# Altium footprint library IC-SMD.PCBLIB: 298 footprints (part 4 of 19)
Each footprint in its own frame and in the unit in brackets; x right, y up, seen from the top. Pads: shape width x height; smd on the part's side, far side on the other; paste and mask are expansions set on the pad; w line width, h text height; cw(c..) or ccw(c..) is an arc to the next point about the centre after c.
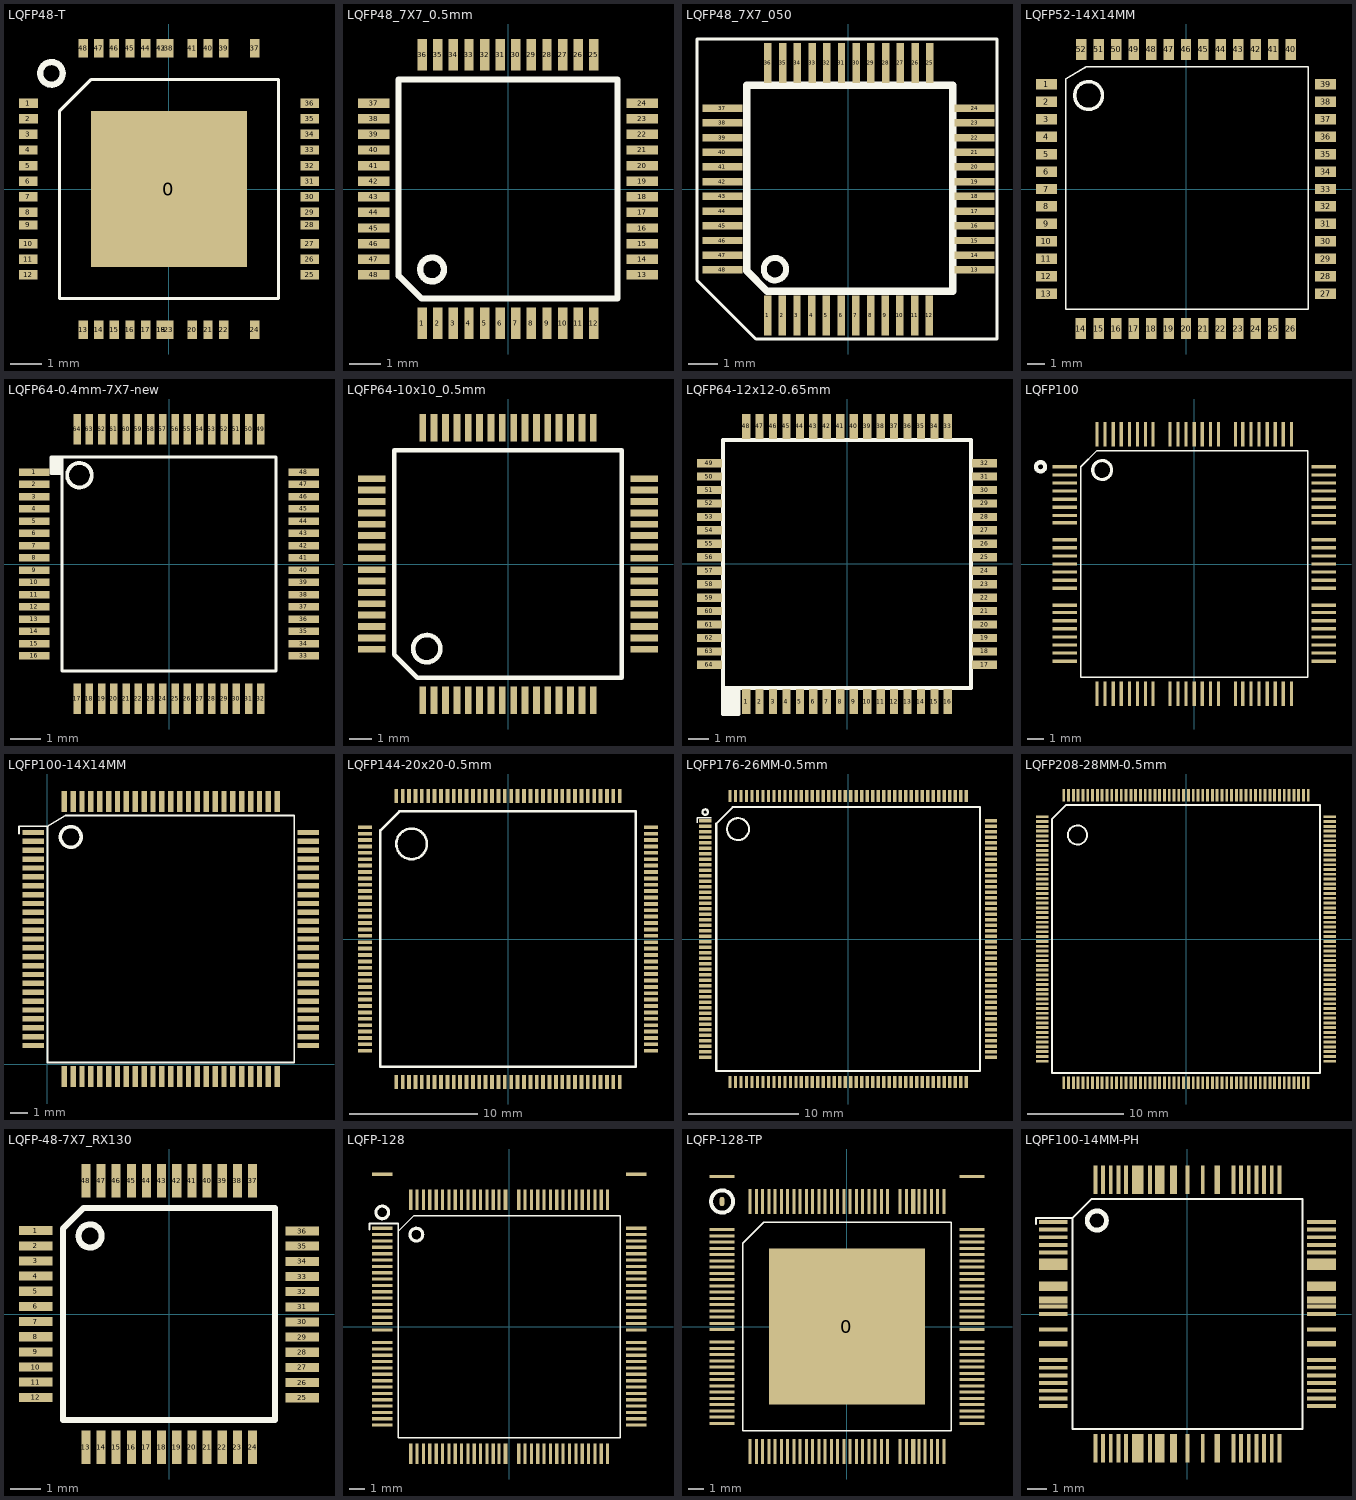
[diagram p3: the footprints below, top view; thin cyan lines are the x and y axes]

## LQFP48-T [mm]
pads (49):
  rect 5x5 smd: 0(0,0)
  rect 0.6x0.3 smd: 1(-4.5,2.75) 2(-4.5,2.25) 3(-4.5,1.75) 4(-4.5,1.25) 5(-4.5,0.75) 6(-4.5,0.25) 7(-4.5,-0.25) 8(-4.5,-0.75) 9(-4.5,-1.15) 10(-4.5,-1.75) 11(-4.5,-2.25) 12(-4.5,-2.75) 25(4.5,-2.75) 26(4.5,-2.25) 27(4.5,-1.75) 28(4.5,-1.15) 29(4.5,-0.75) 30(4.5,-0.25) 31(4.5,0.25) 32(4.5,0.75) 33(4.5,1.25) 34(4.5,1.75) 35(4.5,2.25) 36(4.5,2.75)
  rect 0.3x0.6 smd: 13(-2.75,-4.5) 14(-2.25,-4.5) 15(-1.75,-4.5) 16(-1.25,-4.5) 17(-0.75,-4.5) 18(-0.25,-4.5) 19(-0.25,-4.5) 20(0.75,-4.5) 21(1.25,-4.5) 22(1.75,-4.5) 23(0,-4.5) 24(2.75,-4.5) 37(2.75,4.5) 38(0,4.5) 39(1.75,4.5) 40(1.25,4.5) 41(0.75,4.5) 42(-0.25,4.5) 43(-0.25,4.5) 44(-0.75,4.5) 45(-1.25,4.5) 46(-1.75,4.5) 47(-2.25,4.5) 48(-2.75,4.5)
TopOverlay:
  circle w0.2: c-3.761,3.7 r0.361
  lines w0.1: -3.5,-3.5 -3.5,2.5 -2.5,3.5 3.5,3.5 3.5,-3.5 -3.5,-3.5

## LQFP48_7X7_0.5mm [mm] "LQFP48_7X7_0.5mm"
pads (48):
  rect 0.3x1 smd: 1(-2.75,-4.3) 2(-2.25,-4.3) 3(-1.75,-4.3) 4(-1.25,-4.3) 5(-0.75,-4.3) 6(-0.25,-4.3) 7(0.25,-4.3) 8(0.75,-4.3) 9(1.25,-4.3) 10(1.75,-4.3) 11(2.25,-4.3) 12(2.75,-4.3) 25(2.75,4.3) 26(2.25,4.3) 27(1.75,4.3) 28(1.25,4.3) 29(0.75,4.3) 30(0.25,4.3) 31(-0.25,4.3) 32(-0.75,4.3) 33(-1.25,4.3) 34(-1.75,4.3) 35(-2.25,4.3) 36(-2.75,4.3)
  rect 1x0.3 smd: 13(4.3,-2.75) 14(4.3,-2.25) 15(4.3,-1.75) 16(4.3,-1.25) 17(4.3,-0.75) 18(4.3,-0.25) 19(4.3,0.25) 20(4.3,0.75) 21(4.3,1.25) 22(4.3,1.75) 23(4.3,2.25) 24(4.3,2.75) 37(-4.3,2.75) 38(-4.3,2.25) 39(-4.3,1.75) 40(-4.3,1.25) 41(-4.3,0.75) 42(-4.3,0.25) 43(-4.3,-0.25) 44(-4.3,-0.75) 45(-4.3,-1.25) 46(-4.3,-1.75) 47(-4.3,-2.25) 48(-4.3,-2.75)
TopOverlay:
  circle w0.203: c-2.431,-2.575 r0.381
  lines w0.2: -3.5,-2.777 -3.5,3.5 3.5,3.5 3.5,-3.5 -2.77,-3.5 -3.494,-2.777

## LQFP48_7X7_050 [mm]
pads (48):
  rect 0.254x1.35 smd: 1(-2.75,-4.292) 2(-2.25,-4.292) 3(-1.75,-4.292) 4(-1.25,-4.292) 5(-0.75,-4.292) 6(-0.25,-4.292) 7(0.25,-4.292) 8(0.75,-4.292) 9(1.25,-4.292) 10(1.75,-4.292) 11(2.25,-4.292) 12(2.75,-4.292) 25(2.763,4.292) 26(2.263,4.292) 27(1.763,4.292) 28(1.263,4.292) 29(0.763,4.292) 30(0.263,4.292) 31(-0.237,4.292) 32(-0.737,4.292) 33(-1.237,4.292) 34(-1.737,4.292) 35(-2.237,4.292) 36(-2.737,4.292)
  rect 1.35x0.254 smd: 13(4.286,-2.744) 14(4.286,-2.244) 15(4.286,-1.744) 16(4.286,-1.244) 17(4.286,-0.744) 18(4.286,-0.244) 19(4.286,0.256) 20(4.286,0.756) 21(4.286,1.256) 22(4.286,1.756) 23(4.286,2.256) 24(4.286,2.756) 37(-4.286,2.756) 38(-4.286,2.256) 39(-4.286,1.756) 40(-4.286,1.256) 41(-4.286,0.756) 42(-4.286,0.256) 43(-4.286,-0.244) 44(-4.286,-0.744) 45(-4.286,-1.244) 46(-4.286,-1.744) 47(-4.286,-2.244) 48(-4.286,-2.744)
TopOverlay:
  circle w0.203: c-2.499,-2.718 r0.381
  lines w0.1: -5.15,-3.092 -3.15,-5.092 5.05,-5.092 5.05,5.108 -5.15,5.108 -5.15,-3.092
  lines w0.254: -3.456,-2.777 -2.77,-3.462 3.544,-3.462 3.544,3.538 -3.456,3.538 -3.456,-2.777

## LQFP52-14X14MM [mm] "LQFP52-14X14MM"
pads (52):
  rect 1.2x0.6 smd: 1(-8,6) 2(-8,5) 3(-8,4) 4(-8,3) 5(-8,2) 6(-8,1) 7(-8,0) 8(-8,-1) 9(-8,-2) 10(-8,-3) 11(-8,-4) 12(-8,-5) 13(-8,-6) 27(8,-6) 28(8,-5) 29(8,-4) 30(8,-3) 31(8,-2) 32(8,-1) 33(8,0) 34(8,1) 35(8,2) 36(8,3) 37(8,4) 38(8,5) 39(8,6)
  rect 0.6x1.2 smd: 14(-6.025,-8) 15(-5,-8) 16(-4,-8) 17(-3,-8) 18(-2,-8) 19(-1,-8) 20(0,-8) 21(1,-8) 22(2,-8) 23(3,-8) 24(4,-8) 25(5,-8) 26(6,-8) 40(6,8) 41(5,8) 42(4,8) 43(3,8) 44(2,8) 45(1,8) 46(0,8) 47(-1,8) 48(-2,8) 49(-3,8) 50(-4,8) 51(-5,8) 52(-6,8)
TopOverlay:
  circle w0.2: c-5.588,5.362 r0.8
  lines w0.1: -6.888,-6.888 -6.888,6.312 -5.721,7.012 7.012,7.012 7.012,-6.888 -6.888,-6.888

## LQFP64-0.4mm-7X7-new [mm] "LQFP64-0.4mm-7X7-new"
pads (64):
  rect 1x0.25 smd: 1(-4.4,3) 2(-4.4,2.6) 3(-4.4,2.2) 4(-4.4,1.8) 5(-4.4,1.4) 6(-4.4,1) 7(-4.4,0.6) 8(-4.4,0.2) 9(-4.4,-0.2) 10(-4.4,-0.6) 11(-4.4,-1) 12(-4.4,-1.4) 13(-4.4,-1.8) 14(-4.4,-2.2) 15(-4.4,-2.6) 16(-4.4,-3) 33(4.4,-3) 34(4.4,-2.6) 35(4.4,-2.2) 36(4.4,-1.8) 37(4.4,-1.4) 38(4.4,-1) 39(4.4,-0.6) 40(4.4,-0.2) 41(4.4,0.2) 42(4.4,0.6) 43(4.4,1) 44(4.4,1.4) 45(4.4,1.8) 46(4.4,2.2) 47(4.4,2.6) 48(4.4,3)
  rect 0.25x1 smd: 17(-3,-4.4) 18(-2.6,-4.4) 19(-2.2,-4.4) 20(-1.8,-4.4) 21(-1.4,-4.4) 22(-1,-4.4) 23(-0.6,-4.4) 24(-0.2,-4.4) 25(0.2,-4.4) 26(0.6,-4.4) 27(1,-4.4) 28(1.4,-4.4) 29(1.8,-4.4) 30(2.2,-4.4) 31(2.6,-4.4) 32(3,-4.4) 49(3,4.4) 50(2.6,4.4) 51(2.2,4.4) 52(1.8,4.4) 53(1.4,4.4) 54(1,4.4) 55(0.6,4.4) 56(0.2,4.4) 57(-0.2,4.4) 58(-0.6,4.4) 59(-1,4.4) 60(-1.4,4.4) 61(-1.8,4.4) 62(-2.2,4.4) 63(-2.6,4.4) 64(-3,4.4)
TopOverlay:
  circle w0.127: c-2.925,2.9 r0.4
  rectangle: -3.9,2.95 -3.55,3.5
  lines w0.1: -3.85,2.95 -3.5,2.95 ; -3.85,3.5 -3.5,3.5 ; -3.5,3.5 -3.5,-3.5 3.5,-3.5 3.5,3.5 -3.5,3.5

## LQFP64-10x10_0.5mm [mm] "LQFP64-10x10_0.5mm"
pads (64):
  rect 0.3x1.2 smd: 1(-3.75,-6) 2(-3.25,-6) 3(-2.75,-6) 4(-2.25,-6) 5(-1.75,-6) 6(-1.25,-6) 7(-0.75,-6) 8(-0.25,-6) 9(0.25,-6) 10(0.75,-6) 11(1.25,-6) 12(1.75,-6) 13(2.25,-6) 14(2.75,-6) 15(3.25,-6) 16(3.75,-6) 33(3.75,6) 34(3.25,6) 35(2.75,6) 36(2.25,6) 37(1.75,6) 38(1.25,6) 39(0.75,6) 40(0.25,6) 41(-0.25,6) 42(-0.75,6) 43(-1.25,6) 44(-1.75,6) 45(-2.25,6) 46(-2.75,6) 47(-3.25,6) 48(-3.75,6)
  rect 1.2x0.3 smd: 17(6,-3.75) 18(6,-3.25) 19(6,-2.75) 20(6,-2.25) 21(6,-1.75) 22(6,-1.25) 23(6,-0.75) 24(6,-0.25) 25(6,0.25) 26(6,0.75) 27(6,1.25) 28(6,1.75) 29(6,2.25) 30(6,2.75) 31(6,3.25) 32(6,3.75) 49(-6,3.75) 50(-6,3.25) 51(-6,2.75) 52(-6,2.25) 53(-6,1.75) 54(-6,1.25) 55(-6,0.75) 56(-6,0.25) 57(-6,-0.25) 58(-6,-0.75) 59(-6,-1.25) 60(-6,-1.75) 61(-6,-2.25) 62(-6,-2.75) 63(-6,-3.25) 64(-6,-3.75)
TopOverlay:
  circle w0.203: c-3.575,-3.725 r0.6
  lines w0.2: -5,-4 -5,5 5,5 5,-5 -4,-5 -5,-4

## LQFP64-12x12-0.65mm [mm] "LQFP64-12x12-0.65mm"
pads (64):
  rect 0.4x1.2 smd: 1(-4.875,-6.65) 2(-4.225,-6.65) 3(-3.575,-6.65) 4(-2.925,-6.65) 5(-2.275,-6.65) 6(-1.625,-6.65) 7(-0.975,-6.65) 8(-0.325,-6.65) 9(0.325,-6.65) 10(0.975,-6.65) 11(1.625,-6.65) 12(2.275,-6.65) 13(2.925,-6.65) 14(3.575,-6.65) 15(4.225,-6.65) 16(4.875,-6.65) 33(4.875,6.65) 34(4.225,6.65) 35(3.575,6.65) 36(2.925,6.65) 37(2.275,6.65) 38(1.625,6.65) 39(0.975,6.65) 40(0.325,6.65) 41(-0.325,6.65) 42(-0.975,6.65) 43(-1.625,6.65) 44(-2.275,6.65) 45(-2.925,6.65) 46(-3.575,6.65) 47(-4.225,6.65) 48(-4.875,6.65)
  rect 1.2x0.4 smd: 17(6.65,-4.875) 18(6.65,-4.225) 19(6.65,-3.575) 20(6.65,-2.925) 21(6.65,-2.275) 22(6.65,-1.625) 23(6.65,-0.975) 24(6.65,-0.325) 25(6.65,0.325) 26(6.65,0.975) 27(6.65,1.625) 28(6.65,2.275) 29(6.65,2.925) 30(6.65,3.575) 31(6.65,4.225) 32(6.65,4.875) 49(-6.65,4.875) 50(-6.65,4.225) 51(-6.65,3.575) 52(-6.65,2.925) 53(-6.65,2.275) 54(-6.65,1.625) 55(-6.65,0.975) 56(-6.65,0.325) 57(-6.65,-0.325) 58(-6.65,-0.975) 59(-6.65,-1.625) 60(-6.65,-2.275) 61(-6.65,-2.925) 62(-6.65,-3.575) 63(-6.65,-4.225) 64(-6.65,-4.875)
TopOverlay:
  rectangle: -6,-7.25 -5.25,-6
  lines w0.2: -6,-5.95 -6,-7.25 -5.25,-7.25 -5.25,-6 ; -6,-6 -6,6 6,6 6,-6 -6,-6

## LQFP100 [mm]
pads (100):
  rect 1.5x0.2 smd: 1(-8,6) 2(-8,5.5) 3(-8,5) 4(-8,4.5) 5(-8,4) 6(-8,3.5) 7(-8,3) 8(-8,2.55) 9(-8,1.5) 10(-8,1.5) 11(-8,1) 12(-8,0.5) 13(-8,0) 14(-8,-0.5) 15(-8,-1) 16(-8,-1.5) 17(-8,-1.5) 18(-8,-2.55) 19(-8,-3) 20(-8,-3.5) 21(-8,-4) 22(-8,-4.5) 23(-8,-5) 24(-8,-5.5) 25(-8,-6) 51(8,-6) 52(8,-5.5) 53(8,-5) 54(8,-4.5) 55(8,-4) 56(8,-3.5) 57(8,-3) 58(8,-2.55) 59(8,-1.5) 60(8,-1.5) 61(8,-1) 62(8,-0.5) 63(8,0) 64(8,0.5) 65(8,1) 66(8,1.5) 67(8,1.5) 68(8,2.55) 69(8,3) 70(8,3.5) 71(8,4) 72(8,4.5) 73(8,5) 74(8,5.5) 75(8,6)
  rect 0.2x1.5 smd: 26(-6,-8) 27(-5.5,-8) 28(-5,-8) 29(-4.5,-8) 30(-4,-8) 31(-3.5,-8) 32(-3,-8) 33(-2.55,-8) 34(-1.5,-8) 35(-1.5,-8) 36(-1,-8) 37(-0.5,-8) 38(0,-8) 39(0.5,-8) 40(1,-8) 41(1.5,-8) 42(1.5,-8) 43(2.55,-8) 44(3,-8) 45(3.5,-8) 46(4,-8) 47(4.5,-8) 48(5,-8) 49(5.5,-8) 50(6,-8) 76(6,8) 77(5.5,8) 78(5,8) 79(4.5,8) 80(4,8) 81(3.5,8) 82(3,8) 83(2.55,8) 84(1.5,8) 85(1.5,8) 86(1,8) 87(0.5,8) 88(0,8) 89(-0.5,8) 90(-1,8) 91(-1.5,8) 92(-1.5,8) 93(-2.55,8) 94(-3,8) 95(-3.5,8) 96(-4,8) 97(-4.5,8) 98(-5,8) 99(-5.5,8) 100(-6,8)
TopOverlay:
  circle w0.254: c-9.483,6 r0.283
  circle w0.2: c-5.683,5.8 r0.583
  lines w0.1: -7,-7 -7,6 -6,7 7,7 7,-7 -7,-7

## LQFP100-14X14MM [mm] "LQFP100-14X14MM"
pads (100):
  rect 1.2x0.3 smd: 1(-0.8,13.05) 2(-0.8,12.55) 3(-0.8,12.05) 4(-0.8,11.55) 5(-0.8,11.05) 6(-0.8,10.55) 7(-0.8,10.05) 8(-0.8,9.55) 9(-0.8,9.05) 10(-0.8,8.55) 11(-0.8,8.05) 12(-0.8,7.55) 13(-0.8,7.05) 14(-0.8,6.55) 15(-0.8,6.05) 16(-0.8,5.55) 17(-0.8,5.05) 18(-0.8,4.55) 19(-0.8,4.05) 20(-0.8,3.55) 21(-0.8,3.05) 22(-0.8,2.55) 23(-0.8,2.05) 24(-0.8,1.55) 25(-0.8,1.05) 51(14.7,1.05) 52(14.7,1.55) 53(14.7,2.05) 54(14.7,2.55) 55(14.7,3.05) 56(14.7,3.55) 57(14.7,4.05) 58(14.7,4.55) 59(14.7,5.05) 60(14.7,5.55) 61(14.7,6.05) 62(14.7,6.55) 63(14.7,7.05) 64(14.7,7.55) 65(14.7,8.05) 66(14.7,8.55) 67(14.7,9.05) 68(14.7,9.55) 69(14.7,10.05) 70(14.7,10.55) 71(14.7,11.05) 72(14.7,11.55) 73(14.7,12.05) 74(14.7,12.55) 75(14.7,13.05)
  rect 0.3x1.2 smd: 26(0.95,-0.7) 27(1.45,-0.7) 28(1.95,-0.7) 29(2.45,-0.7) 30(2.95,-0.7) 31(3.45,-0.7) 32(3.95,-0.7) 33(4.45,-0.7) 34(4.95,-0.7) 35(5.45,-0.7) 36(5.95,-0.7) 37(6.45,-0.7) 38(6.95,-0.7) 39(7.45,-0.7) 40(7.95,-0.7) 41(8.45,-0.7) 42(8.95,-0.7) 43(9.45,-0.7) 44(9.95,-0.7) 45(10.45,-0.7) 46(10.95,-0.7) 47(11.45,-0.7) 48(11.95,-0.7) 49(12.45,-0.7) 50(12.95,-0.7) 76(12.95,14.8) 77(12.45,14.8) 78(11.95,14.8) 79(11.45,14.8) 80(10.95,14.8) 81(10.45,14.8) 82(9.95,14.8) 83(9.45,14.8) 84(8.95,14.8) 85(8.45,14.8) 86(7.95,14.8) 87(7.45,14.8) 88(6.95,14.8) 89(6.45,14.8) 90(5.95,14.8) 91(5.45,14.8) 92(4.95,14.8) 93(4.45,14.8) 94(3.95,14.8) 95(3.45,14.8) 96(2.95,14.8) 97(2.45,14.8) 98(1.95,14.8) 99(1.45,14.8) 100(0.95,14.8)
TopOverlay:
  circle w0.2: c1.317,12.8 r0.583
  lines w0.1: -1.6,13 -1.6,13.4 0,13.4 ; 0,13.4 1,14 13.9,14 13.9,0.1 0,0.1 0,13.4

## LQFP144-20x20-0.5mm [mm] "LQFP144-20x20-0.5mm"
pads (144):
  rect 1.1x0.3 smd: 1(-11.2,8.75) 2(-11.2,8.25) 3(-11.2,7.75) 4(-11.2,7.25) 5(-11.2,6.75) 6(-11.2,6.25) 7(-11.2,5.75) 8(-11.2,5.25) 9(-11.2,4.75) 10(-11.2,4.25) 11(-11.2,3.75) 12(-11.2,3.25) 13(-11.2,2.75) 14(-11.2,2.25) 15(-11.2,1.75) 16(-11.2,1.25) 17(-11.2,0.75) 18(-11.2,0.25) 19(-11.2,-0.25) 20(-11.2,-0.75) 21(-11.2,-1.25) 22(-11.2,-1.75) 23(-11.2,-2.25) 24(-11.2,-2.75) 25(-11.2,-3.25) 26(-11.2,-3.75) 27(-11.2,-4.25) 28(-11.2,-4.75) 29(-11.2,-5.25) 30(-11.2,-5.75) 31(-11.2,-6.25) 32(-11.2,-6.75) 33(-11.2,-7.25) 34(-11.2,-7.75) 35(-11.2,-8.25) 36(-11.2,-8.75) 73(11.2,-8.75) 74(11.2,-8.25) 75(11.2,-7.75) 76(11.2,-7.25) 77(11.2,-6.75) 78(11.2,-6.25) 79(11.2,-5.75) 80(11.2,-5.25) 81(11.2,-4.75) 82(11.2,-4.25) 83(11.2,-3.75) 84(11.2,-3.25) 85(11.2,-2.75) 86(11.2,-2.25) 87(11.2,-1.75) 88(11.2,-1.25) 89(11.2,-0.75) 90(11.2,-0.25) 91(11.2,0.25) 92(11.2,0.75) 93(11.2,1.25) 94(11.2,1.75) 95(11.2,2.25) 96(11.2,2.75) 97(11.2,3.25) 98(11.2,3.75) 99(11.2,4.25) 100(11.2,4.75) 101(11.2,5.25) 102(11.2,5.75) 103(11.2,6.25) 104(11.2,6.75) 105(11.2,7.25) 106(11.2,7.75) 107(11.2,8.25) 108(11.2,8.75)
  rect 0.3x1.1 smd: 37(-8.75,-11.2) 38(-8.25,-11.2) 39(-7.75,-11.2) 40(-7.25,-11.2) 41(-6.75,-11.2) 42(-6.25,-11.2) 43(-5.75,-11.2) 44(-5.25,-11.2) 45(-4.75,-11.2) 46(-4.25,-11.2) 47(-3.75,-11.2) 48(-3.25,-11.2) 49(-2.75,-11.2) 50(-2.25,-11.2) 51(-1.75,-11.2) 52(-1.25,-11.2) 53(-0.75,-11.2) 54(-0.25,-11.2) 55(0.25,-11.2) 56(0.75,-11.2) 57(1.25,-11.2) 58(1.75,-11.2) 59(2.25,-11.2) 60(2.75,-11.2) 61(3.25,-11.2) 62(3.75,-11.2) 63(4.25,-11.2) 64(4.75,-11.2) 65(5.25,-11.2) 66(5.75,-11.2) 67(6.25,-11.2) 68(6.75,-11.2) 69(7.25,-11.2) 70(7.75,-11.2) 71(8.25,-11.2) 72(8.75,-11.2) 109(8.75,11.2) 110(8.25,11.2) 111(7.75,11.2) 112(7.25,11.2) 113(6.75,11.2) 114(6.25,11.2) 115(5.75,11.2) 116(5.25,11.2) 117(4.75,11.2) 118(4.25,11.2) 119(3.75,11.2) 120(3.25,11.2) 121(2.75,11.2) 122(2.25,11.2) 123(1.75,11.2) 124(1.25,11.2) 125(0.75,11.2) 126(0.25,11.2) 127(-0.25,11.2) 128(-0.75,11.2) 129(-1.25,11.2) 130(-1.75,11.2) 131(-2.25,11.2) 132(-2.75,11.2) 133(-3.25,11.2) 134(-3.75,11.2) 135(-4.25,11.2) 136(-4.75,11.2) 137(-5.25,11.2) 138(-5.75,11.2) 139(-6.25,11.2) 140(-6.75,11.2) 141(-7.25,11.2) 142(-7.75,11.2) 143(-8.25,11.2) 144(-8.75,11.2)
TopOverlay:
  circle w0.2: c-7.55,7.45 r1.2
  lines w0.2: -10,-10 10,-10 10,10 -8.5,10 -10,8.5 -10,-10

## LQFP176-26MM-0.5mm [mm] "LQFP176-26MM-0.5mm"
pads (176):
  rect 1.1x0.3 smd: 1(-13,10.75) 2(-13,10.25) 3(-13,9.75) 4(-13,9.25) 5(-13,8.75) 6(-13,8.25) 7(-13,7.75) 8(-13,7.25) 9(-13,6.75) 10(-13,6.25) 11(-13,5.75) 12(-13,5.25) 13(-13,4.75) 14(-13,4.25) 15(-13,3.75) 16(-13,3.25) 17(-13,2.75) 18(-13,2.25) 19(-13,1.75) 20(-13,1.25) 21(-13,0.75) 22(-13,0.25) 23(-13,-0.25) 24(-13,-0.75) 25(-13,-1.25) 26(-13,-1.75) 27(-13,-2.25) 28(-13,-2.75) 29(-13,-3.25) 30(-13,-3.75) 31(-13,-4.25) 32(-13,-4.75) 33(-13,-5.25) 34(-13,-5.75) 35(-13,-6.25) 36(-13,-6.75) 37(-13,-7.25) 38(-13,-7.75) 39(-13,-8.25) 40(-13,-8.75) 41(-13,-9.25) 42(-13,-9.75) 43(-13,-10.25) 44(-13,-10.75) 89(13,-10.75) 90(13,-10.25) 91(13,-9.75) 92(13,-9.25) 93(13,-8.75) 94(13,-8.25) 95(13,-7.75) 96(13,-7.25) 97(13,-6.75) 98(13,-6.25) 99(13,-5.75) 100(13,-5.25) 101(13,-4.75) 102(13,-4.25) 103(13,-3.75) 104(13,-3.25) 105(13,-2.75) 106(13,-2.25) 107(13,-1.75) 108(13,-1.25) 109(13,-0.75) 110(13,-0.25) 111(13,0.25) 112(13,0.75) 113(13,1.25) 114(13,1.75) 115(13,2.25) 116(13,2.75) 117(13,3.25) 118(13,3.75) 119(13,4.25) 120(13,4.75) 121(13,5.25) 122(13,5.75) 123(13,6.25) 124(13,6.75) 125(13,7.25) 126(13,7.75) 127(13,8.25) 128(13,8.75) 129(13,9.25) 130(13,9.75) 131(13,10.25) 132(13,10.75)
  rect 0.3x1.1 smd: 45(-10.75,-13) 46(-10.25,-13) 47(-9.75,-13) 48(-9.25,-13) 49(-8.75,-13) 50(-8.25,-13) 51(-7.75,-13) 52(-7.25,-13) 53(-6.75,-13) 54(-6.25,-13) 55(-5.75,-13) 56(-5.25,-13) 57(-4.75,-13) 58(-4.25,-13) 59(-3.75,-13) 60(-3.25,-13) 61(-2.75,-13) 62(-2.25,-13) 63(-1.75,-13) 64(-1.25,-13) 65(-0.75,-13) 66(-0.25,-13) 67(0.25,-13) 68(0.75,-13) 69(1.25,-13) 70(1.75,-13) 71(2.25,-13) 72(2.75,-13) 73(3.25,-13) 74(3.75,-13) 75(4.25,-13) 76(4.75,-13) 77(5.25,-13) 78(5.75,-13) 79(6.25,-13) 80(6.75,-13) 81(7.25,-13) 82(7.75,-13) 83(8.25,-13) 84(8.75,-13) 85(9.25,-13) 86(9.75,-13) 87(10.25,-13) 88(10.75,-13) 133(10.75,13) 134(10.25,13) 135(9.75,13) 136(9.25,13) 137(8.75,13) 138(8.25,13) 139(7.75,13) 140(7.25,13) 141(6.75,13) 142(6.25,13) 143(5.75,13) 144(5.25,13) 145(4.75,13) 146(4.25,13) 147(3.75,13) 148(3.25,13) 149(2.75,13) 150(2.25,13) 151(1.75,13) 152(1.25,13) 153(0.75,13) 154(0.25,13) 155(-0.25,13) 156(-0.75,13) 157(-1.25,13) 158(-1.75,13) 159(-2.25,13) 160(-2.75,13) 161(-3.25,13) 162(-3.75,13) 163(-4.25,13) 164(-4.75,13) 165(-5.25,13) 166(-5.75,13) 167(-6.25,13) 168(-6.75,13) 169(-7.25,13) 170(-7.75,13) 171(-8.25,13) 172(-8.75,13) 173(-9.25,13) 174(-9.75,13) 175(-10.25,13) 176(-10.75,13)
TopOverlay:
  circle w0.2: c-13,11.55 r0.25
  circle w0.2: c-10.015,10 r1
  lines w0.127: -13.75,10.6 -13.75,11.05 -12.475,11.05
  lines w0.2: -12,-12 12,-12 12,12 -10.5,12 -12,10.5 -12,-12

## LQFP208-28MM-0.5mm [mm] "LQFP208-28MM-0.5mm"
pads (208):
  rect 1.3x0.3 smd: 1(-15,12.75) 2(-15,12.25) 3(-15,11.75) 4(-15,11.25) 5(-15,10.75) 6(-15,10.25) 7(-15,9.75) 8(-15,9.25) 9(-15,8.75) 10(-15,8.25) 11(-15,7.75) 12(-15,7.25) 13(-15,6.75) 14(-15,6.25) 15(-15,5.75) 16(-15,5.25) 17(-15,4.75) 18(-15,4.25) 19(-15,3.75) 20(-15,3.25) 21(-15,2.75) 22(-15,2.25) 23(-15,1.75) 24(-15,1.25) 25(-15,0.75) 26(-15,0.25) 27(-15,-0.25) 28(-15,-0.75) 29(-15,-1.25) 30(-15,-1.75) 31(-15,-2.25) 32(-15,-2.75) 33(-15,-3.25) 34(-15,-3.75) 35(-15,-4.25) 36(-15,-4.75) 37(-15,-5.25) 38(-15,-5.75) 39(-15,-6.25) 40(-15,-6.75) 41(-15,-7.25) 42(-15,-7.75) 43(-15,-8.25) 44(-15,-8.75) 45(-15,-9.25) 46(-15,-9.75) 47(-15,-10.25) 48(-15,-10.75) 49(-15,-11.25) 50(-15,-11.75) 51(-15,-12.25) 52(-15,-12.75) 105(15,-12.75) 106(15,-12.25) 107(15,-11.75) 108(15,-11.25) 109(15,-10.75) 110(15,-10.25) 111(15,-9.75) 112(15,-9.25) 113(15,-8.75) 114(15,-8.25) 115(15,-7.75) 116(15,-7.25) 117(15,-6.75) 118(15,-6.25) 119(15,-5.75) 120(15,-5.25) 121(15,-4.75) 122(15,-4.25) 123(15,-3.75) 124(15,-3.25) 125(15,-2.75) 126(15,-2.25) 127(15,-1.75) 128(15,-1.25) 129(15,-0.75) 130(15,-0.25) 131(15,0.25) 132(15,0.75) 133(15,1.25) 134(15,1.75) 135(15,2.25) 136(15,2.75) 137(15,3.25) 138(15,3.75) 139(15,4.25) 140(15,4.75) 141(15,5.25) 142(15,5.75) 143(15,6.25) 144(15,6.75) 145(15,7.25) 146(15,7.75) 147(15,8.25) 148(15,8.75) 149(15,9.25) 150(15,9.75) 151(15,10.25) 152(15,10.75) 153(15,11.25) 154(15,11.75) 155(15,12.25) 156(15,12.75)
  rect 0.3x1.3 smd: 53(-12.75,-15) 54(-12.25,-15) 55(-11.75,-15) 56(-11.25,-15) 57(-10.75,-15) 58(-10.25,-15) 59(-9.75,-15) 60(-9.25,-15) 61(-8.75,-15) 62(-8.25,-15) 63(-7.75,-15) 64(-7.25,-15) 65(-6.75,-15) 66(-6.25,-15) 67(-5.75,-15) 68(-5.25,-15) 69(-4.75,-15) 70(-4.25,-15) 71(-3.75,-15) 72(-3.25,-15) 73(-2.75,-15) 74(-2.25,-15) 75(-1.75,-15) 76(-1.25,-15) 77(-0.75,-15) 78(-0.25,-15) 79(0.25,-15) 80(0.75,-15) 81(1.25,-15) 82(1.75,-15) 83(2.25,-15) 84(2.75,-15) 85(3.25,-15) 86(3.75,-15) 87(4.25,-15) 88(4.75,-15) 89(5.25,-15) 90(5.75,-15) 91(6.25,-15) 92(6.75,-15) 93(7.25,-15) 94(7.75,-15) 95(8.25,-15) 96(8.75,-15) 97(9.25,-15) 98(9.75,-15) 99(10.25,-15) 100(10.75,-15) 101(11.25,-15) 102(11.75,-15) 103(12.25,-15) 104(12.75,-15) 157(12.75,15) 158(12.25,15) 159(11.75,15) 160(11.25,15) 161(10.75,15) 162(10.25,15) 163(9.75,15) 164(9.25,15) 165(8.75,15) 166(8.25,15) 167(7.75,15) 168(7.25,15) 169(6.75,15) 170(6.25,15) 171(5.75,15) 172(5.25,15) 173(4.75,15) 174(4.25,15) 175(3.75,15) 176(3.25,15) 177(2.75,15) 178(2.25,15) 179(1.75,15) 180(1.25,15) 181(0.75,15) 182(0.25,15) 183(-0.25,15) 184(-0.75,15) 185(-1.25,15) 186(-1.75,15) 187(-2.25,15) 188(-2.75,15) 189(-3.25,15) 190(-3.75,15) 191(-4.25,15) 192(-4.75,15) 193(-5.25,15) 194(-5.75,15) 195(-6.25,15) 196(-6.75,15) 197(-7.25,15) 198(-7.75,15) 199(-8.25,15) 200(-8.75,15) 201(-9.25,15) 202(-9.75,15) 203(-10.25,15) 204(-10.75,15) 205(-11.25,15) 206(-11.75,15) 207(-12.25,15) 208(-12.75,15)
TopOverlay:
  circle w0.2: c-11.325,10.85 r1
  lines w0.2: -14,-14 -14,12.5 -12.5,14 14,14 14,-14 -14,-14

## LQFP-48-7X7_RX130 [mm] "LQFP-48-7X7_RX130"
pads (48):
  rect 1.1x0.3 smd: 1(-4.4,2.75) 2(-4.4,2.25) 3(-4.4,1.75) 4(-4.4,1.25) 5(-4.4,0.75) 6(-4.4,0.25) 7(-4.4,-0.25) 8(-4.4,-0.75) 9(-4.4,-1.25) 10(-4.4,-1.75) 11(-4.4,-2.25) 12(-4.4,-2.75) 25(4.4,-2.763) 26(4.4,-2.263) 27(4.4,-1.763) 28(4.4,-1.263) 29(4.4,-0.763) 30(4.4,-0.263) 31(4.4,0.237) 32(4.4,0.737) 33(4.4,1.237) 34(4.4,1.737) 35(4.4,2.237) 36(4.4,2.737)
  rect 0.3x1.1 smd: 13(-2.744,-4.4) 14(-2.244,-4.4) 15(-1.744,-4.4) 16(-1.244,-4.4) 17(-0.744,-4.4) 18(-0.244,-4.4) 19(0.256,-4.4) 20(0.756,-4.4) 21(1.256,-4.4) 22(1.756,-4.4) 23(2.256,-4.4) 24(2.756,-4.4) 37(2.756,4.4) 38(2.256,4.4) 39(1.756,4.4) 40(1.256,4.4) 41(0.756,4.4) 42(0.256,4.4) 43(-0.244,4.4) 44(-0.744,4.4) 45(-1.244,4.4) 46(-1.744,4.4) 47(-2.244,4.4) 48(-2.744,4.4)
TopOverlay:
  circle w0.2: c-2.606,2.575 r0.381
  lines w0.2: -2.814,3.5 -3.5,2.814 -3.5,-3.5 3.5,-3.5 3.5,3.5 -2.777,3.5

## LQFP-128 [mm]
pads (128):
  rect 1.3x0.2 smd: 1(-8,6.2) 2(-8,5.8) 3(-8,5.4) 4(-8,5) 5(-8,4.6) 6(-8,4.2) 7(-8,3.8) 8(-8,3.4) 9(-8,3) 10(-8,2.6) 11(-8,2.2) 12(-8,1.8) 13(-8,1.4) 14(-8,1) 15(-8,0.6) 16(-8,0.2) 17(-8,-0.2) 18(-8,9.6) 19(-8,-1) 20(-8,-1.4) 21(-8,-1.8) 22(-8,-2.2) 23(-8,-2.6) 24(-8,-3) 25(-8,-3.4) 26(-8,-3.8) 27(-8,-4.2) 28(-8,-4.6) 29(-8,-5) 30(-8,-5.4) 31(-8,-5.8) 32(-8,-6.2) 65(8,-6.2) 66(8,-5.8) 67(8,-5.4) 68(8,-5) 69(8,-4.6) 70(8,-4.2) 71(8,-3.8) 72(8,-3.4) 73(8,-3) 74(8,-2.6) 75(8,-2.2) 76(8,-1.8) 77(8,-1.4) 78(8,-1) 79(8,9.6) 80(8,-0.2) 81(8,0.2) 82(8,0.6) 83(8,1) 84(8,1.4) 85(8,1.8) 86(8,2.2) 87(8,2.6) 88(8,3) 89(8,3.4) 90(8,3.8) 91(8,4.2) 92(8,4.6) 93(8,5) 94(8,5.4) 95(8,5.8) 96(8,6.2)
  rect 0.2x1.3 smd: 33(-6.2,-8) 34(-5.8,-8) 35(-5.4,-8) 36(-5,-8) 37(-4.6,-8) 38(-4.2,-8) 39(-3.8,-8) 40(-3.4,-8) 41(-3,-8) 42(-2.6,-8) 43(-2.2,-8) 44(-1.8,-8) 45(-1.4,-8) 46(-1,-8) 47(-0.645,-8) 48(-0.2,-8) 49(-0.25,-8) 50(0.6,-8) 51(1,-8) 52(1.4,-8) 53(1.8,-8) 54(2.2,-8) 55(2.6,-8) 56(3,-8) 57(3.4,-8) 58(3.8,-8) 59(4.2,-8) 60(4.6,-8) 61(5,-8) 62(5.4,-8) 63(5.8,-8) 64(6.2,-8) 97(6.2,8) 98(5.8,8) 99(5.4,8) 100(5,8) 101(4.6,8) 102(4.2,8) 103(3.8,8) 104(3.4,8) 105(3,8) 106(2.6,8) 107(2.2,8) 108(1.8,8) 109(1.4,8) 110(1,8) 111(0.6,8) 112(-0.25,8) 113(-0.2,8) 114(-0.645,8) 115(-1,8) 116(-1.4,8) 117(-1.8,8) 118(-2.2,8) 119(-2.6,8) 120(-3,8) 121(-3.4,8) 122(-3.8,8) 123(-4.2,8) 124(-4.6,8) 125(-5,8) 126(-5.4,8) 127(-5.8,8) 128(-6.2,8)
TopOverlay:
  circle w0.2: c-8,7.2 r0.4
  circle w0.2: c-5.847,5.8 r0.4
  lines w0.1: -8.8,6.1 -8.8,6.5 -7,6.5 -7,6 ; -7,6 -7,-7 7,-7 7,7 -6,7 -7,6

## LQFP-128-TP [mm]
pads (130):
  oval 0.3x0.6 smd: 0(-8,8)
  rect 10x10 smd: 0(0,0)
  rect 1.6x0.2 smd: 1(-8,6.2) 2(-8,5.8) 3(-8,5.4) 4(-8,5) 5(-8,4.6) 6(-8,4.2) 7(-8,3.8) 8(-8,3.4) 9(-8,3) 10(-8,2.6) 11(-8,2.2) 12(-8,1.8) 13(-8,1.4) 14(-8,1) 15(-8,0.6) 16(-8,0.2) 17(-8,-0.2) 18(-8,9.6) 19(-8,-1) 20(-8,-1.4) 21(-8,-1.8) 22(-8,-2.2) 23(-8,-2.6) 24(-8,-3) 25(-8,-3.4) 26(-8,-3.8) 27(-8,-4.2) 28(-8,-4.6) 29(-8,-5) 30(-8,-5.4) 31(-8,-5.8) 32(-8,-6.2) 65(8,-6.2) 66(8,-5.8) 67(8,-5.4) 68(8,-5) 69(8,-4.6) 70(8,-4.2) 71(8,-3.8) 72(8,-3.4) 73(8,-3) 74(8,-2.6) 75(8,-2.2) 76(8,-1.8) 77(8,-1.4) 78(8,-1) 79(8,9.6) 80(8,-0.2) 81(8,0.2) 82(8,0.6) 83(8,1) 84(8,1.4) 85(8,1.8) 86(8,2.2) 87(8,2.6) 88(8,3) 89(8,3.4) 90(8,3.8) 91(8,4.2) 92(8,4.6) 93(8,5) 94(8,5.4) 95(8,5.8) 96(8,6.2)
  rect 0.2x1.6 smd: 33(-6.2,-8) 34(-5.8,-8) 35(-5.4,-8) 36(-5,-8) 37(-4.6,-8) 38(-4.2,-8) 39(-3.8,-8) 40(-3.4,-8) 41(-3,-8) 42(-2.6,-8) 43(-2.2,-8) 44(-1.8,-8) 45(-1.4,-8) 46(-1,-8) 47(-0.6,-8) 48(-0.2,-8) 49(0.2,-8) 50(0.6,-8) 51(1,-8) 52(1.4,-8) 53(1.8,-8) 54(2.2,-8) 55(2.6,-8) 56(4.28,-8) 57(3.4,-8) 58(3.8,-8) 59(4.2,-8) 60(4.6,-8) 61(5,-8) 62(5.4,-8) 63(5.8,-8) 64(6.2,-8) 97(6.2,8) 98(5.8,8) 99(5.4,8) 100(5,8) 101(4.6,8) 102(4.2,8) 103(3.8,8) 104(3.4,8) 105(4.28,8) 106(2.6,8) 107(2.2,8) 108(1.8,8) 109(1.4,8) 110(1,8) 111(0.6,8) 112(0.2,8) 113(-0.2,8) 114(-0.6,8) 115(-1,8) 116(-1.4,8) 117(-1.8,8) 118(-2.2,8) 119(-2.6,8) 120(-3,8) 121(-3.4,8) 122(-3.8,8) 123(-4.2,8) 124(-4.6,8) 125(-5,8) 126(-5.4,8) 127(-5.8,8) 128(-6.2,8)
TopOverlay:
  circle w0.254: c-8,8 r0.707
  lines w0.1: -6.665,-6.665 -6.665,5.33 -5.33,6.665 6.665,6.665 6.665,-6.665 -6.665,-6.665

## LQPF100-14MM-PH [mm]
pads (100):
  rect 1.5x0.2 smd: 1(-7,4.8) 2(-7,4.4) 3(-7,4) 4(-7,3.6) 5(-7,3.2) 6(-7,2.8) 7(-7,2.4) 8(-7,1.5) 9(-7,1.6) 10(-7,2.6) 11(-7,0.8) 12(-7,0.385) 13(-7,0) 14(-7,1.3) 15(-7,-0.8) 16(-7,0.65) 17(-7,-1.6) 18(-7,-1.5) 19(-7,-2.4) 20(-7,-2.8) 21(-7,-3.2) 22(-7,-3.6) 23(-7,-4) 24(-7,-4.4) 25(-7,-4.8) 51(7,-4.8) 52(7,-4.4) 53(7,-4) 54(7,-3.6) 55(7,-3.2) 56(7,-2.8) 57(7,-2.4) 58(7,-1.5) 59(7,-1.6) 60(7,0.65) 61(7,-0.8) 62(7,1.3) 63(7,0) 64(7,0.385) 65(7,0.8) 66(7,2.6) 67(7,1.6) 68(7,1.5) 69(7,2.4) 70(7,2.8) 71(7,3.2) 72(7,3.6) 73(7,4) 74(7,4.4) 75(7,4.8)
  rect 0.2x1.5 smd: 26(-4.8,-7) 27(-4.4,-7) 28(-4,-7) 29(-3.6,-7) 30(-3.2,-7) 31(-2.8,-7) 32(-2.4,-7) 33(-1.5,-7) 34(-1.6,-7) 35(-2.6,-7) 36(-0.8,-7) 37(-1.95,-7) 38(0,-7) 39(-1.3,-7) 40(0.8,-7) 41(-0.65,-7) 42(1.6,-7) 43(1.5,-7) 44(2.4,-7) 45(2.8,-7) 46(3.2,-7) 47(3.6,-7) 48(4,-7) 49(4.4,-7) 50(4.8,-7) 76(4.8,7) 77(4.4,7) 78(4,7) 79(3.6,7) 80(3.2,7) 81(2.8,7) 82(2.4,7) 83(1.5,7) 84(1.6,7) 85(-0.65,7) 86(0.8,7) 87(-1.3,7) 88(0,7) 89(-1.95,7) 90(-0.8,7) 91(-2.6,7) 92(-1.6,7) 93(-1.5,7) 94(-2.4,7) 95(-2.8,7) 96(-3.2,7) 97(-3.6,7) 98(-4,7) 99(-4.4,7) 100(-4.8,7)
TopOverlay:
  circle w0.254: c-4.725,4.875 r0.5
  lines w0.1: -7.9,4.7 -7.9,5 -6,5 ; -6,5 -5,6 6,6 6,-6 -6,-6 -6,5